# Altium footprint library HSDL3201.PcbLib: 1 footprints
Each footprint in its own frame and in the unit in brackets; x right, y up, seen from the top. Pads: shape width x height; smd on the part's side, far side on the other; paste and mask are expansions set on the pad; w line width, h text height; cw(c..) or ccw(c..) is an arc to the next point about the centre after c.
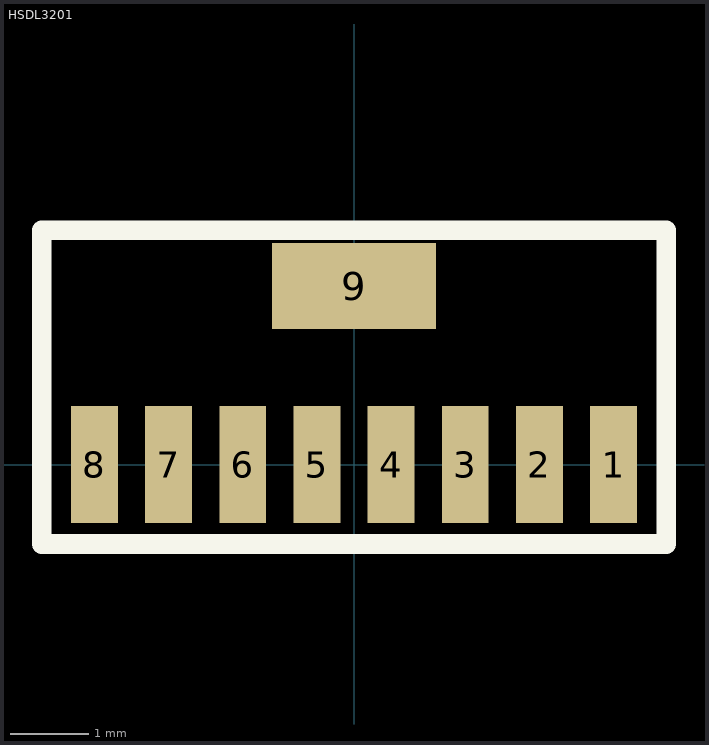
[diagram p0: the footprint, top view; thin cyan lines are the x and y axes]

## HSDL3201 [mm]
pads (9):
  rect 0.6x1.5 smd: 1(3.325,0) 2(2.375,0) 3(1.425,0) 4(0.475,0) 5(-0.475,0) 6(-1.425,0) 7(-2.375,0) 8(-3.325,0)
  rect 2.1x1.1 smd: 9(0,2.286)
Top Overlay:
  lines w0.254: -4,-1.016 4,-1.016 4,3 -4,3 -4,-1.016